# EAGLE library part PCA9626 (library nxp)
PCA9626 24-bit Fm+ I2C-bus 100 mA 40 V LED driver
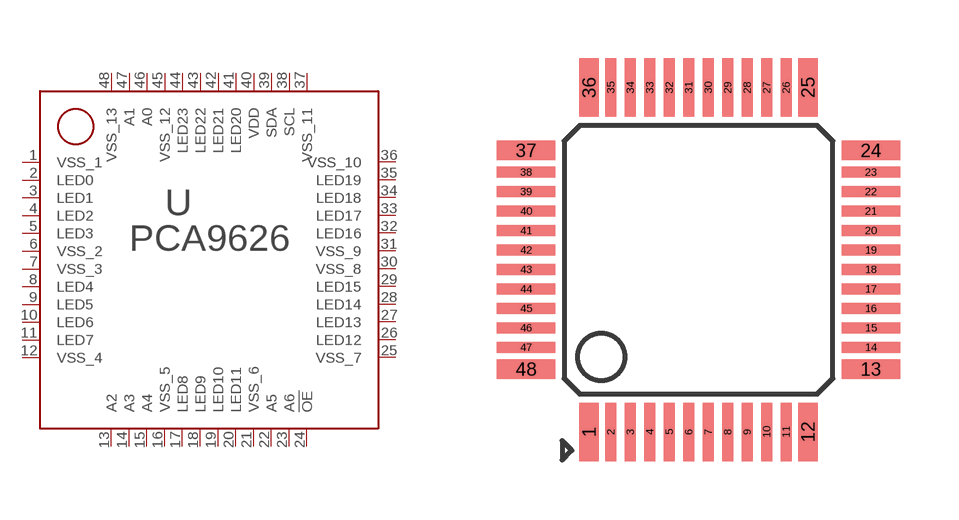
[diagram p1: symbol with the pads of LQFP48; footprint LQFP48]

Designator prefix U

## PCA9626B  [LQFP48]
1  VSS_1  pwr
2  LED0
3  LED1
4  LED2
5  LED3
6  VSS_2  pwr
7  VSS_3  pwr
8  LED4
9  LED5
10  LED6
11  LED7
12  VSS_4  pwr
13  A2
14  A3
15  A4
16  VSS_5  pwr
17  LED8
18  LED9
19  LED10
20  LED11
21  VSS_6  pwr
22  A5
23  A6
24  !OE
25  VSS_7  pwr
26  LED12
27  LED13
28  LED14
29  LED15
30  VSS_8  pwr
31  VSS_9  pwr
32  LED16
33  LED17
34  LED18
35  LED19
36  VSS_10  pwr
37  VSS_11  pwr
38  SCL
39  SDA
40  VDD  pwr
41  LED20
42  LED21
43  LED22
44  LED23
45  VSS_12  pwr
46  A0
47  A1
48  VSS_13  pwr

## Footprint LQFP48 (pad centres in mm)
LQFP48: plastic low profile quad flat package 48 leads body 7 x 7 x 1.4 mm SOT313-2
smd 0.5 x 1.5: 1 -2.81,-4.425; 12 2.81,-4.425; 25 2.81,4.425; 36 -2.81,4.425
smd 0.28 x 1.5: 2 -2.25,-4.425; 3 -1.75,-4.425; 4 -1.25,-4.425; 5 -0.75,-4.425; 6 -0.25,-4.425; 7 0.25,-4.425; 8 0.75,-4.425; 9 1.25,-4.425; 10 1.75,-4.425; 11 2.25,-4.425; 26 2.25,4.425; 27 1.75,4.425; 28 1.25,4.425; 29 0.75,4.425; 30 0.25,4.425; 31 -0.25,4.425; 32 -0.75,4.425; 33 -1.25,4.425; 34 -1.75,4.425; 35 -2.25,4.425
smd 1.5 x 0.5: 13 4.425,-2.81; 24 4.425,2.81; 37 -4.425,2.81; 48 -4.425,-2.81
smd 1.5 x 0.28: 14 4.425,-2.25; 15 4.425,-1.75; 16 4.425,-1.25; 17 4.425,-0.75; 18 4.425,-0.25; 19 4.425,0.25; 20 4.425,0.75; 21 4.425,1.25; 22 4.425,1.75; 23 4.425,2.25; 38 -4.425,2.25; 39 -4.425,1.75; 40 -4.425,1.25; 41 -4.425,0.75; 42 -4.425,0.25; 43 -4.425,-0.25; 44 -4.425,-0.75; 45 -4.425,-1.25; 46 -4.425,-1.75; 47 -4.425,-2.25